# Altium footprint library VioletofSun.PcbLib: 319 footprints (part 8 of 20)
Each footprint in its own frame and in the unit in brackets; x right, y up, seen from the top. Pads: shape width x height; smd on the part's side, far side on the other; paste and mask are expansions set on the pad; w line width, h text height; cw(c..) or ccw(c..) is an arc to the next point about the centre after c.
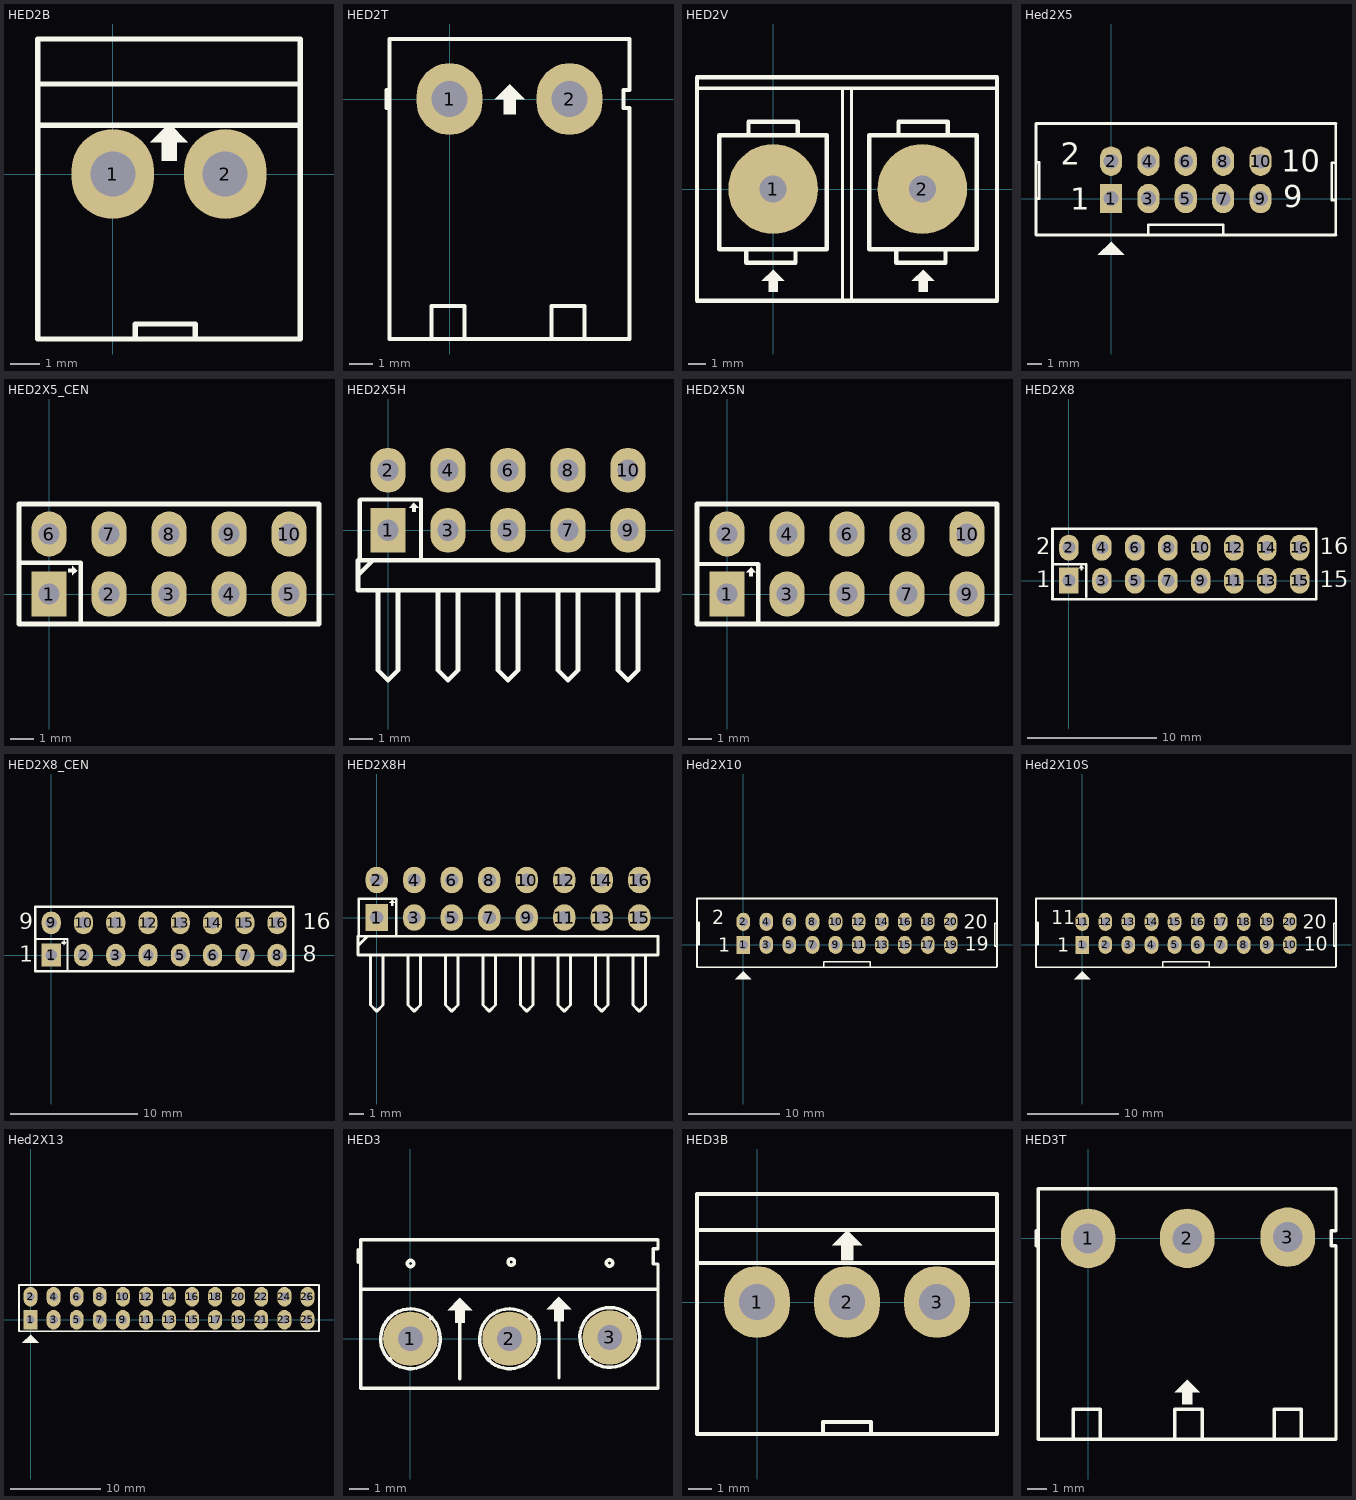
[diagram p7: the footprints below, top view; thin cyan lines are the x and y axes]

## HED2B [mil] "Header 2, 2 pin, hight 300mil, Pin to Pin 150, Colour White"
height 300
pads (2):
  oval 110x120 hole 60: 1(0,0) 2(150,0)
Top Overlay:
  region: 75,67.5 50,42.5 65,42.5 65,17.5 85,17.5 85,42.5 100,42.5
  lines w7: -100,65 250,65 ; -100,120 250,120 ; 30,-220 30,-200 110,-200 110,-220 ; -100,-220 250,-220 250,180 -100,180 -100,-220

## HED2T [mil] "Header 2, 2 pin, hight 300mil, Pin to Pin 200, Colour Green"
height 300
pads (2):
  oval 110x120 hole 60: 1(0,0) 2(200,0)
Top Overlay:
  region: 100,25 75,0 90,0 90,-25 110,-25 110,0 125,0
  lines w7: -105,-15 -105,15 ; -100,100 -100,-400 300,-400 300,-15 290,-15 290,15 300,15 300,100 -98,100 ; -30,-400 -30,-345 25,-345 25,-400 ; 170,-400 170,-345 225,-345 225,-400
3D body: height 333.51, standoff -157.48, extent -100,-406.22 293.7,66.22

## HED2V [mil] "Header 6"
height 300
pads (2):
  round 200 hole 60: 1(0,0) 2(333.33,0)
Top Overlay:
  region: 335,-180 310,-205 325,-205 325,-230 345,-230 345,-205 360,-205
  region: 0,-180 -25,-205 -10,-205 -10,-230 10,-230 10,-205 25,-205
  lines w7: -170,225 499,225 ; 155,-250 155,225 ; 175,-250 175,225
  lines w10: -60,-135 -60,-165 50,-165 50,-135 ; -55,120 -55,150 55,150 55,120 ; 275,-135 275,-165 385,-165 385,-135 ; 280,120 280,150 390,150 390,120 ; -170,-250 -170,250 500,250 500,-250 -170,-250 ; -120,-135 120,-135 120,120 -120,120 -120,-135 ; 215,-135 215,120 455,120 455,-135 215,-135

## Hed2X5 [mm] "Header 10x2,20 pin, connecter"
height 7.62
pads (10):
  rect 1.5x2 hole 1: 1(0,0)
  oval 1.5x2 hole 1: 2(0,2.54) 3(2.54,0) 4(2.54,2.54) 5(5.08,0) 6(5.08,2.54) 7(7.62,0) 8(7.62,2.54) 9(10.16,0) 10(10.16,2.54)
Top Overlay:
  region: 0,-2.921 -0.889,-3.81 0.889,-3.81
  lines w0.178: -5.1,-0.025 -5.075,0 -4.875,0 -4.875,2.475 -5.1,2.475 ; 2.525,-2.438 2.525,-1.778 7.625,-1.778 7.625,-2.464 ; 15.203,-2.45 15.265,-2.388 ; 15.265,-0.102 15.011,-0.102 15.011,2.423 15.265,2.423 ; 15.291,-2.475 -5.1,-2.475 -5.1,5.1 ; -5.1,5.1 15.291,5.1 -5.1,5.1 ; 15.265,-2.388 15.265,5.105 15.265,-2.388
  text "10" at 11.582,1.803 h1.52
  text "9" at 11.709,-0.61 h1.52
  text "2" at -3.429,2.286 h1.52
  text "1" at -2.775,-0.75 h1.52

## HED2X5_CEN [mm] "Connector; Header; 5x2 Position"
pads (10):
  rect 1.5x1.9 hole 0.9: 1(0,0)
  oval 1.5x1.9 hole 0.9: 2(2.54,0) 3(5.08,0) 4(7.62,0) 5(10.16,0) 6(0,2.54) 7(2.54,2.54) 8(5.08,2.54) 9(7.62,2.54) 10(10.16,2.54)
Top Overlay:
  region: 0.813,1.067 0.991,1.067 0.991,1.194 1.194,0.991 0.991,0.787 0.991,0.914 0.813,0.914
  lines w0.178: -1.219,1.321 1.346,1.321 1.346,1.194 1.346,-1.194
  lines w0.2: -1.27,-1.27 -1.27,3.81 11.43,3.81 11.43,-1.27 -1.27,-1.27

## HED2X5H [mm] "Connector; Header; 5x2 Position; Right Angle"
pads (10):
  rect 1.5x1.9 hole 0.9: 1(0,0)
  oval 1.5x1.9 hole 0.9: 2(0,2.54) 3(2.54,0) 4(2.54,2.54) 5(5.08,0) 6(5.08,2.54) 7(7.62,0) 8(7.62,2.54) 9(10.16,0) 10(10.16,2.54)
Top Overlay:
  region: 1.016,0.775 1.016,0.953 0.889,0.953 1.092,1.156 1.295,0.953 1.168,0.953 1.168,0.775
  lines w0.178: -1.194,-1.295 -1.194,1.27 ; -1.168,1.295 1.397,1.295 1.397,1.168 1.397,-1.219
  lines w0.2: -1.27,-1.905 -0.635,-1.27 ; -0.423,-2.54 -0.423,-5.927 0,-6.35 0.423,-5.927 0.423,-2.54 ; 2.117,-2.54 2.117,-5.927 2.54,-6.35 2.963,-5.927 2.963,-2.54 ; 4.657,-2.54 4.657,-5.927 5.08,-6.35 5.503,-5.927 5.503,-2.54 ; 7.197,-2.54 7.197,-5.927 7.62,-6.35 8.043,-5.927 8.043,-2.54 ; 9.737,-2.54 9.737,-5.927 10.16,-6.35 10.583,-5.927 10.583,-2.54 ; -1.27,-2.54 -1.27,-1.27 11.43,-1.27 11.43,-2.54 -1.27,-2.54

## HED2X5N [mm] "Connector; Header; 5x2 Position"
pads (10):
  rect 1.5x1.9 hole 0.9: 1(0,0)
  oval 1.5x1.9 hole 0.9: 2(0,2.54) 3(2.54,0) 4(2.54,2.54) 5(5.08,0) 6(5.08,2.54) 7(7.62,0) 8(7.62,2.54) 9(10.16,0) 10(10.16,2.54)
Top Overlay:
  region: 0.94,0.749 0.94,0.927 0.813,0.927 1.016,1.13 1.219,0.927 1.092,0.927 1.092,0.749
  lines w0.178: -1.245,1.27 1.321,1.27 1.321,1.143 1.321,-1.245
  lines w0.2: -1.27,-1.27 11.43,-1.27 11.43,3.81 -1.27,3.81 -1.27,-1.27

## HED2X8 [mm] "Connector; Header; 8x2 Position"
pads (16):
  rect 1.5x2 hole 1: 1(0,0)
  oval 1.5x2 hole 1: 2(0,2.54) 3(2.54,0) 4(2.54,2.54) 5(5.08,0) 6(5.08,2.54) 7(7.62,0) 8(7.62,2.54) 9(10.16,0) 10(10.16,2.54) 11(12.7,0) 12(12.7,2.54) 13(15.24,0) 14(15.24,2.54) 15(17.78,0) 16(17.78,2.54)
Top Overlay:
  region: 0.889,0.787 0.889,0.965 0.762,0.965 0.965,1.168 1.168,0.965 1.041,0.965 1.041,0.787
  lines w0.178: -1.219,1.295 -1.194,1.27 1.321,1.27 1.321,-1.245
  lines w0.2: -1.27,-1.422 19.05,-1.422 19.05,3.988 -1.27,3.988 -1.27,-1.422
  text "16" at 19.304,2.032 h1.27
  text "15" at 19.304,-0.508 h1.27
  text "1" at -2.54,-0.508 h1.27
  text "2" at -2.54,2.032 h1.27

## HED2X8_CEN [mm] "Connector; Header; 8x2 Position"
pads (16):
  rect 1.5x1.8 hole 0.9: 1(0,0)
  oval 1.5x1.8 hole 0.9: 2(2.54,0) 3(5.08,0) 4(7.62,0) 5(10.16,0) 6(12.7,0) 7(15.24,0) 8(17.78,0) 9(0,2.54) 10(2.54,2.54) 11(5.08,2.54) 12(7.62,2.54) 13(10.16,2.54) 14(12.7,2.54) 15(15.24,2.54) 16(17.78,2.54)
Top Overlay:
  region: 0.813,1.067 0.991,1.067 0.991,1.194 1.194,0.991 0.991,0.787 0.991,0.914 0.813,0.914
  lines w0.178: -1.27,1.27 1.27,1.27 1.27,-1.27
  lines w0.2: -1.27,-1.27 19.05,-1.27 19.05,3.81 -1.27,3.81 -1.27,-1.27
  text "16" at 19.812,2.032 h1.27
  text "8" at 19.812,-0.508 h1.27
  text "1" at -2.54,-0.508 h1.27
  text "9" at -2.54,2.032 h1.27

## HED2X8H [mm] "Connector; Header; 8x2 Position; Right Angle"
pads (16):
  rect 1.5x1.8 hole 0.9: 1(0,0)
  oval 1.5x1.8 hole 0.9: 2(0,2.54) 3(2.54,0) 4(2.54,2.54) 5(5.08,0) 6(5.08,2.54) 7(7.62,0) 8(7.62,2.54) 9(10.16,0) 10(10.16,2.54) 11(12.7,0) 12(12.7,2.54) 13(15.24,0) 14(15.24,2.54) 15(17.78,0) 16(17.78,2.54)
Top Overlay:
  region: 0.965,0.813 0.965,0.991 0.838,0.991 1.041,1.194 1.245,0.991 1.118,0.991 1.118,0.813
  lines w0.178: -1.219,-1.194 -1.219,1.27 1.321,1.27 1.321,-1.27
  lines w0.2: -1.27,-1.905 -0.635,-1.27 ; -0.423,-2.54 -0.423,-5.927 0,-6.35 0.423,-5.927 0.423,-2.54 ; 2.117,-2.54 2.117,-5.927 2.54,-6.35 2.963,-5.927 2.963,-2.54 ; 4.657,-2.54 4.657,-5.927 5.08,-6.35 5.503,-5.927 5.503,-2.54 ; 7.197,-2.54 7.197,-5.927 7.62,-6.35 8.043,-5.927 8.043,-2.54 ; 9.737,-2.54 9.737,-5.927 10.16,-6.35 10.583,-5.927 10.583,-2.54 ; 12.277,-2.54 12.277,-5.927 12.7,-6.35 13.123,-5.927 13.123,-2.54 ; 14.817,-2.54 14.817,-5.927 15.24,-6.35 15.663,-5.927 15.663,-2.54 ; 17.357,-2.54 17.357,-5.927 17.78,-6.35 18.203,-5.927 18.203,-2.54 ; -1.27,-2.54 -1.27,-1.27 19.05,-1.27 19.05,-2.54 -1.27,-2.54

## Hed2X10 [mm] "Header 10x2,20 pin, connecter"
height 7.62
pads (20):
  rect 1.5x2 hole 1: 1(0,0)
  oval 1.5x2 hole 1: 2(0,2.54) 3(2.54,0) 4(2.54,2.54) 5(5.08,0) 6(5.08,2.54) 7(7.62,0) 8(7.62,2.54) 9(10.16,0) 10(10.16,2.54) 11(12.7,0) 12(12.7,2.54) 13(15.24,0) 14(15.24,2.54) 15(17.78,0) 16(17.78,2.54) 17(20.32,0) 18(20.32,2.54) 19(22.86,0) 20(22.86,2.54)
Top Overlay:
  region: 0,-2.921 -0.889,-3.81 0.889,-3.81
  lines w0.178: -5.1,-0.025 -5.075,0 -4.875,0 -4.875,2.475 -5.1,2.475 ; 8.875,-2.475 8.875,-1.875 13.975,-1.875 13.975,-2.425 14.025,-2.475 ; 27.94,-0.127 27.686,-0.127 27.686,2.398 27.94,2.398 ; 27.94,5.08 27.94,-2.413 27.878,-2.475 -5.1,-2.475 -5.1,5.1 27.94,5.1
  text "20" at 24.257,1.778 h1.52
  text "19" at 24.384,-0.635 h1.52
  text "2" at -3.429,2.286 h1.52
  text "1" at -2.775,-0.75 h1.52

## Hed2X10S [mm] "Header 10x2,20 pin, connecter"
height 7.62
pads (20):
  rect 1.5x2 hole 1: 1(0,0)
  oval 1.5x2 hole 1: 2(2.54,0) 3(5.08,0) 4(7.62,0) 5(10.16,0) 6(12.7,0) 7(15.24,0) 8(17.78,0) 9(20.32,0) 10(22.86,0) 11(0,2.54) 12(2.54,2.54) 13(5.08,2.54) 14(7.62,2.54) 15(10.16,2.54) 16(12.7,2.54) 17(15.24,2.54) 18(17.78,2.54) 19(20.32,2.54) 20(22.86,2.54)
Top Overlay:
  region: 0,-2.921 -0.889,-3.81 0.889,-3.81
  lines w0.178: -5.1,-0.025 -5.075,0 -4.875,0 -4.875,2.475 -5.1,2.475 ; 8.875,-2.475 8.875,-1.875 13.975,-1.875 13.975,-2.425 14.025,-2.475 ; 27.94,-0.127 27.686,-0.127 27.686,2.398 27.94,2.398 ; 27.94,5.08 27.94,-2.413 27.878,-2.475 -5.1,-2.475 -5.1,5.1 27.94,5.1
  text "20" at 24.257,1.778 h1.52
  text "10" at 24.384,-0.635 h1.52
  text "11" at -3.429,2.286 h1.52
  text "1" at -2.775,-0.75 h1.52

## Hed2X13 [mil] "Header 13x2,26 pin, connecter"
pads (26):
  rect 60x85 hole 36: 1(0,0)
  oval 60x85 hole 36: 2(0,100) 3(100,0) 4(100,100) 5(200,0) 6(200,100) 7(300,0) 8(300,100) 9(400,0) 10(400,100) 11(500,0) 12(500,100) 13(600,0) 14(600,100) 15(700,0) 16(700,100) 17(800,0) 18(800,100) 19(900,0) 20(900,100) 21(1000,0) 22(1000,100) 23(1100,0) 24(1100,100) 25(1200,0) 26(1200,100)
Top Overlay:
  region: 0,-65 -35,-100 35,-100
  lines w8: -50,-50 -50,150 1250,150 1250,-50 -50,-50

## HED3 [mil] "Header 3, 3 pin, hight 300mil, Pin to Pin 200, Colour Green"
height 300
pads (3):
  round 110 hole 50: 1(0,0) 2(200,0) 3(402.62,2.62)
Top Overlay:
  circle w7: c402,153 r6.4
  circle w7: c0,152 r6.4
  circle w7: c203.6,155 r6.4
  region: 300,85 275,60 290,60 290,35 310,35 310,60 325,60
  region: 100,82.5 75,57.5 90,57.5 90,32.5 110,32.5 110,57.5 125,57.5
  lines w7: -106,155 -106,180 ; -100,100 500,100 ; -42,-42 43,43 ; 39.44,45.71 ccw(c0,0) 44.97,40.28 ; 100,-81 100,70 ; 158.5,-41.5 243,43 ; 238.89,46.18 ccw(c200,0) 245.38,39.82 ; 300,-79 300,72 ; 360,-39 445,45 ; 441.65,48.68 ccw(c402.62,2.62) 448.22,42.19 ; -100,-100 500,-100 500,151 490,151 490,182 500,182 500,200 -100,200 -100,50 -100,-100

## HED3B [mil] "Header 3, 3 pin, hight 300mil, Pin to Pin 150, Colour White"
height 300
pads (3):
  oval 110x120 hole 60: 1(0,0) 2(150,0) 3(300,0)
Top Overlay:
  region: 150,120 125,95 140,95 140,70 160,70 160,95 175,95
  lines w7: -100,65 400,65 ; -100,120 400,120 ; 110,-220 110,-200 190,-200 190,-220 ; -100,-220 400,-220 400,180 -100,180 -100,-220
3D body: height 285.43, standoff -133.86, extent -97.36,-310 407.36,56.14

## HED3T [mil] "Header 3, 3 pin, hight 300mil, Pin to Pin 200, Colour Green"
height 300
pads (3):
  oval 110x120 hole 60: 1(0,0) 2(200,0) 3(402.62,2.62)
Top Overlay:
  region: 200,-285 175,-310 190,-310 190,-335 210,-335 210,-310 225,-310
  lines w7: -105,-15 -105,15 ; -30,-400 -30,-345 25,-345 25,-400 ; 175,-400 175,-345 230,-345 230,-400 ; 375,-400 375,-345 430,-345 430,-400 ; -100,-405 -100,100 500,100 500,15 490,15 490,-15 500,-15 500,-405 -100,-405